# Altium schematic symbol library ShortableLink.SchLib: 3 symbols
Pins are listed as number, name and electrical type; pins without a type are passive.

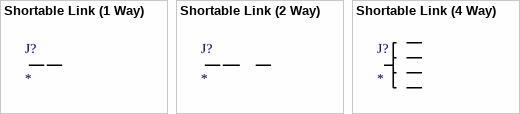
[diagram p0: symbols Shortable Link (1 Way) to Shortable Link (4 Way)]

## Shortable Link (1 Way)
designator J?
Shortable Link (1 Way)
footprint ShortableLink(1Way)
pins: 1, 2

## Shortable Link (2 Way)
designator J?
Shortable Link (2 Way)
footprint ShortableLink(2Way)
pins: 1, 2, 3

## Shortable Link (4 Way)
designator J?
Shortable Link (4 Way)
footprint ShortableLink(4Way)
pins: 1, 2, 3, 4, 5